# Altium footprint library PCB1.PcbLib: 21 footprints (part 1 of 2)
Each footprint in its own frame and in the unit in brackets; x right, y up, seen from the top. Pads: shape width x height; smd on the part's side, far side on the other; paste and mask are expansions set on the pad; w line width, h text height; cw(c..) or ccw(c..) is an arc to the next point about the centre after c.
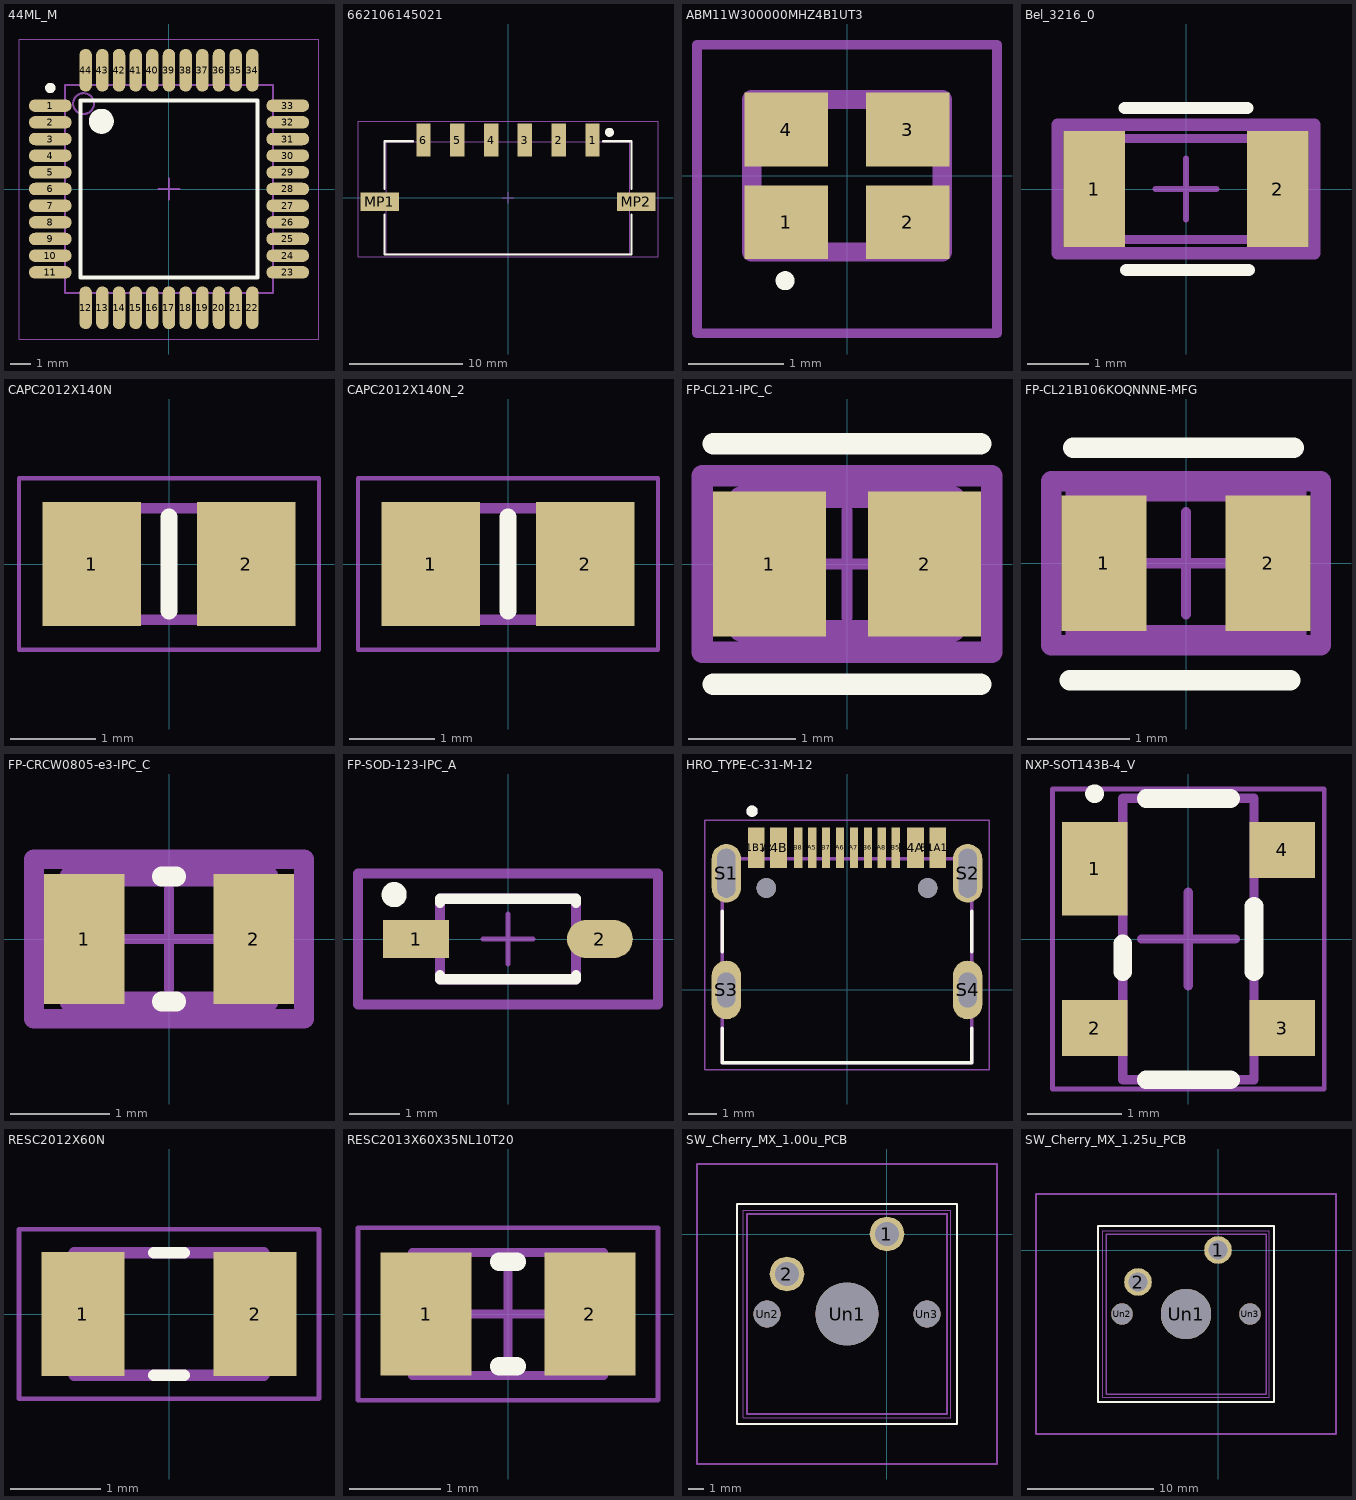
[diagram p0: the footprints below, top view; thin cyan lines are the x and y axes]

## 44ML_M [mm] "Thin QFP, 44-Leads, Body 10x10mm, Pitch 0.8mm, IPC Low Density"
height 1.2
pads (44):
  oval 2.05x0.6 smd: 1(-5.7,4) 2(-5.7,3.2) 3(-5.7,2.4) 4(-5.7,1.6) 5(-5.7,0.8) 6(-5.7,0) 7(-5.7,-0.8) 8(-5.7,-1.6) 9(-5.7,-2.4) 10(-5.7,-3.2) 11(-5.7,-4) 23(5.7,-4) 24(5.7,-3.2) 25(5.7,-2.4) 26(5.7,-1.6) 27(5.7,-0.8) 28(5.7,0) 29(5.7,0.8) 30(5.7,1.6) 31(5.7,2.4) 32(5.7,3.2) 33(5.7,4)
  oval 0.6x2.05 smd: 12(-4,-5.7) 13(-3.2,-5.7) 14(-2.4,-5.7) 15(-1.6,-5.7) 16(-0.8,-5.7) 17(0,-5.7) 18(0.8,-5.7) 19(1.6,-5.7) 20(2.4,-5.7) 21(3.2,-5.7) 22(4,-5.7) 34(4,5.7) 35(3.2,5.7) 36(2.4,5.7) 37(1.6,5.7) 38(0.8,5.7) 39(0,5.7) 40(-0.8,5.7) 41(-1.6,5.7) 42(-2.4,5.7) 43(-3.2,5.7) 44(-4,5.7)
Top Overlay:
  circle w0.6: c-3.25,3.25 r0.3
  circle w0.25: c-5.7,4.85 r0.125
  lines w0.2: -4.25,-4.25 4.25,-4.25 4.25,4.25 -4.25,4.25 -4.25,-4.25
Mechanical 13:
  circle w0.1: c-4.1,4.1 r0.5
  lines w0.1: -5,-5 5,-5 5,5 -5,5 -5,-5
Mechanical 15:
  lines w0.05: -7.2,-7.2 7.2,-7.2 7.2,7.2 -7.2,7.2 -7.2,-7.2
  lines w0.1: -0.5,0 0.5,0 ; 0,-0.5 0,0.5
3D body: height 1.2, standoff 0, extent -5,-5 5,5

## 662106145021 [mm] "3.00mm Male Single Row Angled Header, 6p"
height 5.57
pads (8):
  rect 1.27x2.92 smd: 1(7.5,5.12) 2(4.5,5.12) 3(1.5,5.12) 4(-1.5,5.12) 5(-4.5,5.12) 6(-7.5,5.12)
  rect 3.43x1.65 smd: MP1(-11.395,-0.35) MP2(11.395,-0.35)
Top Overlay:
  circle w0.4: c9,5.8 r0.2
  lines w0.2: -10.95,-1.475 -10.95,-5.025 10.95,-5.025 10.95,-1.475 ; -10.95,0.775 -10.95,5.025 -8.45,5.025 ; 8.45,5.025 10.95,5.025 10.95,0.775
Mechanical 13:
  lines w0.1: -10.825,-4.95 10.825,-4.95 10.825,4.95 -10.825,4.95 -10.825,-4.95
Mechanical 15:
  lines w0.05: -0.5,0 0.5,0 ; 0,-0.5 0,0.5 ; -13.31,-5.225 13.31,-5.225 13.31,6.78 -13.31,6.78 -13.31,-5.225
3D body "662106145021.stp": height 5.61, standoff -0.03, extent -12.823,-4.95 12.823,6.403

## ABM11W300000MHZ4B1UT3 [mm]
pads (4):
  rect 0.875x0.775 smd: 1(-0.638,-0.487) 2(0.637,-0.487) 3(0.637,0.487) 4(-0.638,0.487)
Top Overlay:
  lines w0.1: -0.7,-1.1 ccw(c-0.65,-1.1) -0.6,-1.1 ccw(c-0.65,-1.1) -0.7,-1.1
Mechanical 13:
  lines w0.1: -1.575,-1.65 -1.575,1.375 1.575,1.375 1.575,-1.65 -1.575,-1.65
  lines w0.2: -1,-0.8 -1,0.8 1,0.8 1,-0.8 -1,-0.8

## Bel_3216_0 [mm]
pads (2):
  rect 1x1.9 smd paste+0 mask+0: 1(-1.5,0) 2(1.5,0)
Top Overlay:
  lines w0.2: -1,1.325 1,1.325 ; -0.975,-1.325 1.025,-1.325
Mechanical 10:
  lines w0.2: -2.1,-1.05 2.1,-1.05 2.1,1.05 -2.1,1.05 -2.1,-1.05
  text ".Designator" at 0,0 h1
Mechanical 12:
  lines w0.15: -1.625,-0.825 1.625,-0.825 1.625,0.825 -1.625,0.825 -1.625,-0.825
Mechanical 15:
  lines w0.1: -0.5,0 0.5,0 ; 0,-0.5 0,0.5
  lines w0.2: -2.1,-1.05 2.1,-1.05 2.1,1.05 -2.1,1.05 -2.1,-1.05
3D body "3dmodel.step": height 0.25, standoff 0, extent -2.1,-1.05 2.1,1.05

## CAPC2012X140N [mm]
pads (2):
  rect 1.15x1.45 smd: 1(-0.9,0) 2(0.9,0)
Top Overlay:
  lines w0.2: 0,-0.55 0,0.55
Mechanical 13:
  region: 1,-0.65 0.5,-0.65 0.5,0.65 1,0.65
  region: -0.5,-0.65 -1,-0.65 -1,0.65 -0.5,0.65
  lines w0.127: -1,-0.65 -1,0.65 1,0.65 1,-0.65 -1,-0.65
Mechanical 15:
  lines w0.05: -1.75,-1 -1.75,1 1.75,1 1.75,-1 -1.75,-1

## CAPC2012X140N_2 [mm]
pads (2):
  rect 1.15x1.45 smd: 1(-0.9,0) 2(0.9,0)
Top Overlay:
  lines w0.2: 0,-0.55 0,0.55
Mechanical 13:
  region: 1,-0.65 0.5,-0.65 0.5,0.65 1,0.65
  region: -0.5,-0.65 -1,-0.65 -1,0.65 -0.5,0.65
  lines w0.127: -1,-0.65 -1,0.65 1,0.65 1,-0.65 -1,-0.65
Mechanical 15:
  lines w0.05: -1.75,-1 -1.75,1 1.75,1 1.75,-1 -1.75,-1

## FP-CL21-IPC_C [mm]
pads (2):
  rect 1.055x1.356 smd paste+0 mask+0: 1(-0.726,0) 2(0.726,0)
Top Overlay:
  lines w0.2: -1.253,-1.125 1.253,-1.125 ; -1.253,1.125 1.253,1.125
Top 3D Body:
  lines w0.2: -1,-0.625 1,-0.625 1,0.625 -1,0.625 -1,-0.625
Top Courtyard:
  lines w0.2: -1.353,-0.825 1.353,-0.825 1.353,0.825 -1.353,0.825 -1.353,-0.825
Top Assembly:
  lines w0.2: -1.353,-0.825 1.353,-0.825 1.353,0.825 -1.353,0.825 -1.353,-0.825
  text ".Designator" at 0,0.188 h1
Top Component Center:
  lines w0.1: -0.5,0 0.5,0 ; 0,-0.5 0,0.5
3D body "Cap_Samsung_CL21B273KBANNNC_eec.STEP": height 0.25, standoff 0, extent -1.353,-0.825 1.353,0.825

## FP-CL21B106KOQNNNE-MFG [mm]
pads (2):
  rect 0.825x1.325 smd paste+0 mask+0: 1(-0.8,0) 2(0.8,0)
Top Overlay:
  lines w0.2: -1.133,-1.14 1.017,-1.14 ; -1.1,1.125 1.05,1.125
Top 3D Body:
  lines w0.2: -1.075,-0.7 1.075,-0.7 1.075,0.7 -1.075,0.7 -1.075,-0.7
Top Courtyard:
  lines w0.2: -1.312,-0.8 1.312,-0.8 1.312,0.8 -1.312,0.8 -1.312,-0.8
Top Assembly:
  lines w0.2: -1.312,-0.8 1.312,-0.8 1.312,0.8 -1.312,0.8 -1.312,-0.8
  text ".Designator" at 0,0.188 h1
Top Component Center:
  lines w0.1: -0.5,0 0.5,0 ; 0,-0.5 0,0.5
3D body "Cap_Samsung_Electro-Mechanics_America_Inc_CL21B106KOQNNNE_eec.STEP": height 0.25, standoff 0, extent -1.312,-0.8 1.312,0.8

## FP-CRCW0805-e3-IPC_C [mil]
pads (2):
  rect 31.75x51.5 smd paste+0 mask+0: 1(-33.5,0) 2(33.5,0)
Top Overlay:
  lines w7.87: -2.86,-24.61 2.86,-24.61 ; -2.86,24.61 2.86,24.61
Top 3D Body:
  lines w7.87: -39.37,-24.61 39.37,-24.61 39.37,24.61 -39.37,24.61 -39.37,-24.61
Top Courtyard:
  lines w7.87: -53.31,-31.5 53.31,-31.5 53.31,31.5 -53.31,31.5 -53.31,-31.5
Top Assembly:
  lines w7.87: -53.31,-31.5 53.31,-31.5 53.31,31.5 -53.31,31.5 -53.31,-31.5
  text ".Designator" at 0,7.39 h39.37
Top Component Center:
  lines w3.94: -19.68,0 19.68,0 ; 0,-19.68 0,19.68
3D body "Res_Vishay_CRCW0805100KFKEA_eec.STEP": height 10, standoff 0, extent -53.31,-31.5 53.31,31.5

## FP-SOD-123-IPC_A [mm]
pads (2):
  rect 1.308x0.762 smd paste+0 mask+0: 1(-1.825,0)
  rrect100% 1.308x0.762 smd paste+0 mask+0: 2(1.825,0)
Top Overlay:
  circle w0.25: c-2.261,0.881 r0.125
  lines w0.2: -1.35,-0.72 -1.35,-0.8 1.35,-0.8 1.35,-0.72 ; -1.35,0.72 -1.35,0.8 1.35,0.8 1.35,0.72
Top 3D Body:
  lines w0.2: -1.35,-0.8 1.35,-0.8 1.35,0.8 -1.35,0.8 -1.35,-0.8
Top Courtyard:
  lines w0.2: -2.979,-1.3 2.979,-1.3 2.979,1.3 -2.979,1.3 -2.979,-1.3
Top Assembly:
  lines w0.2: -2.979,-1.3 2.979,-1.3 2.979,1.3 -2.979,1.3 -2.979,-1.3
  text ".Designator" at 0,0.188 h1
Top Component Center:
  lines w0.1: -0.5,0 0.5,0 ; 0,-0.5 0,0.5
3D body "Diode_MCC_MBR0540-TP_eec.STEP": height 0.25, standoff 0, extent -2.979,-1.3 2.979,1.3

## HRO_TYPE-C-31-M-12 [mm]
pads (18):
  rect 0.6x1.45 smd: A1B12(-3.25,5.095) A4B9(-2.45,5.095) B1A12(3.25,5.095) B4A9(2.45,5.095)
  rect 0.3x1.45 smd: A5(-1.25,5.095) A6(-0.25,5.095) A7(0.25,5.095) A8(1.25,5.095) B5(1.75,5.095) B6(0.75,5.095) B7(-0.75,5.095) B8(-1.75,5.095)
  oval 1.05x2.1 hole 0.65 slot 1.75 at 90 deg: S1(-4.32,4.18) S2(4.32,4.18)
  oval 1.05x2.1 hole 0.65 slot 1.25 at 90 deg: S3(-4.32,0) S4(4.32,0)
  round 0.7 hole 0.7 unplated: ""(-2.89,3.65) ""(2.89,3.65)
Top Overlay:
  circle w0.2: c-3.4,6.4 r0.1
  lines w0.127: -4.47,-1.37 -4.47,-2.6 4.47,-2.6 4.47,-1.37 ; -4.47,1.37 -4.47,2.81 ; 4.47,1.37 4.47,2.81
Mechanical 13:
  circle w0.2: c-3.4,6.4 r0.1
  lines w0.127: -4.47,-2.6 -4.47,4.7 4.47,4.7 4.47,-2.6 -4.47,-2.6
Mechanical 15:
  lines w0.05: -5.095,-2.85 -5.095,6.07 5.095,6.07 5.095,-2.85 -5.095,-2.85

## NXP-SOT143B-4_V [mm] "SOT143, 4-Leads, Body 3x1.4mm"
height 1.1
pads (4):
  rect 0.7x1 smd: 1(-1,0.75)
  rect 0.7x0.6 smd: 2(-1,-0.95) 3(1,-0.95) 4(1,0.95)
Top Overlay:
  circle w0.1: c-1,1.55 r0.05
  lines w0.2: -0.7,-0.35 -0.7,-0.05 ; -0.45,-1.5 0.45,-1.5 ; -0.45,1.5 0.45,1.5 ; 0.7,-0.35 0.7,0.35
Mechanical 13:
  lines w0.1: -0.7,-1.5 0.7,-1.5 0.7,1.5 -0.7,1.5 -0.7,-1.5
Mechanical 15:
  lines w0.05: -1.45,-1.6 1.45,-1.6 1.45,1.6 -1.45,1.6 -1.45,-1.6
  lines w0.1: -0.5,0 0.5,0 ; 0,-0.5 0,0.5
3D body: height 1.1, standoff 0, extent -0.7,-1.5 0.7,1.5

## RESC2012X60N [mm]
pads (2):
  rect 0.92x1.38 smd: 1(-0.955,0) 2(0.955,0)
Top Overlay:
  lines w0.127: -0.17,-0.68 0.17,-0.68 ; -0.17,0.68 0.17,0.68
Mechanical 13:
  lines w0.127: -1.05,-0.68 1.05,-0.68 1.05,0.68 -1.05,0.68 -1.05,-0.68
Mechanical 15:
  lines w0.05: -1.665,-0.94 1.665,-0.94 1.665,0.94 -1.665,0.94 -1.665,-0.94

## RESC2013X60X35NL10T20 [mm] "Chip Resistor, 2-Leads, Body 2.1x1.35mm, IPC Medium Density"
height 0.6
pads (2):
  rect 1x1.35 smd: 1(-0.9,0) 2(0.9,0)
Top Overlay:
  lines w0.2: -0.1,-0.575 0.1,-0.575 ; -0.1,0.575 0.1,0.575
Mechanical 13:
  lines w0.1: -1.05,-0.675 1.05,-0.675 1.05,0.675 -1.05,0.675 -1.05,-0.675
Mechanical 15:
  lines w0.05: -1.65,-0.95 1.65,-0.95 1.65,0.95 -1.65,0.95 -1.65,-0.95
  lines w0.1: -0.5,0 0.5,0 ; 0,-0.5 0,0.5
3D body "RESC2012X06N.step": height 0.6, standoff 0, extent -1.05,-0.675 1.05,0.675

## SW_Cherry_MX_1.00u_PCB [mm]
pads (5):
  round 2.2 hole 1.5: 1(0,0) 2(-6.35,-2.54)
  round 4 hole 4: Un1(-2.54,-5.08)
  round 1.7 hole 1.7: Un2(-7.62,-5.08) Un3(2.54,-5.08)
Top Overlay:
  lines w0.12: -9.525,-12.065 4.445,-12.065 4.445,1.905 -9.525,1.905 -9.525,-12.065
Top 3D Body:
  lines w0.15: -12.065,-14.605 6.985,-14.605 6.985,4.445 -12.065,4.445 -12.065,-14.605
Mechanical 4:
  lines w0.05: -9.14,-11.68 -9.14,1.52 4.06,1.52 4.06,-11.68 -9.14,-11.68
Mechanical 6:
  lines w0.1: -8.89,-11.43 3.81,-11.43 3.81,1.27 -8.89,1.27 -8.89,-11.43
  text "%R" at -2.933,2.501 h1

## SW_Cherry_MX_1.25u_PCB [mm]
pads (5):
  round 2.2 hole 1.5: 1(0,0) 2(-6.35,-2.54)
  round 4 hole 4: Un1(-2.54,-5.08)
  round 1.7 hole 1.7: Un2(-7.62,-5.08) Un3(2.54,-5.08)
Top Overlay:
  lines w0.12: -9.525,-12.065 4.445,-12.065 4.445,1.905 -9.525,1.905 -9.525,-12.065
Top 3D Body:
  lines w0.15: -14.446,-14.605 9.366,-14.605 9.366,4.445 -14.446,4.445 -14.446,-14.605
Mechanical 4:
  lines w0.05: -9.14,-11.68 -9.14,1.52 4.06,1.52 4.06,-11.68 -9.14,-11.68
Mechanical 6:
  lines w0.1: -8.89,-11.43 3.81,-11.43 3.81,1.27 -8.89,1.27 -8.89,-11.43
  text "%R" at -2.933,2.501 h1